# Altium schematic symbol library SPDT_Power.SchLib: 1 symbol
Pins are listed as number, name and electrical type; pins without a type are passive.

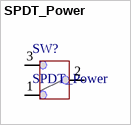
[diagram p0: symbol SPDT_Power]

## SPDT_Power
designator SW?
pins: 1, 2, 3